# Altium schematic symbol library ExtendBoard_1.SCHLIB: 6 symbols
Pins are listed as number, name and electrical type; pins without a type are passive.

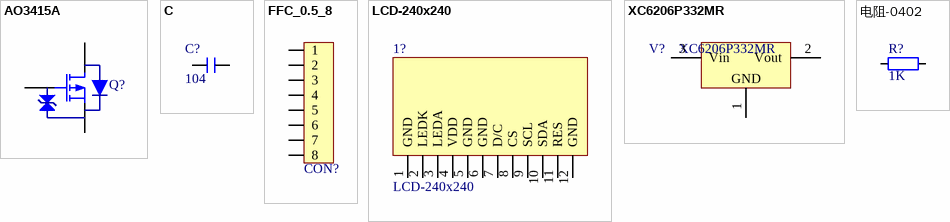
[diagram p0: symbols AO3415A to 电阻-0402]

## AO3415A
designator Q?  (value not drawn)
MOSFET; Published: 8-Jun-2000; LatestRevisionDate: 17-Jul-2002; LatestRevisionNote: Re-released for DXP Platform.; PackageVersion: 1995/1996; PackageReference: E3; Publisher: Altium Limited; PackageDescription: TO, Flat Index; 3 In-Line, Axial Leads; Body Dia. 4.6mm; Lead Dia. 0.5 mm (max)
footprint SOT23-3 (SOT23, 3-Leads, Body 3.1x3.0mm (max), Pitch 0.95mm, IPC Medium Density)
pins: 1 G, 2 S, 3 D

## C
designator C?, comment 104
无极性贴片电容; 材质: X7R; BOM名称: 无极性贴片电容
footprint C 0402_L (无极性贴片电容)
footprint C 0402_M (无极性贴片电容)
pins: 1, 2

## FFC_0.5_8
designator CON?  (value not drawn)
FFC; System: Connector
footprint FFC_0.5_8
pins: 1, 2, 3, 4, 5, 6, 7, 8

## LCD-240x240
designator 1?
显示屏
footprint LCD-240x240
footprint LCD-240x240-NoHole
pins: 1 GND, 2 LEDK, 3 LEDA, 4 VDD, 5 GND, 6 GND, 7 D/C, 8 CS, 9 SCL, 10 SDA, 11 RES, 12 GND

## XC6206P332MR
designator V?
低压差线性稳压芯片; BOM名称: 低压差线性稳压芯片
footprint SOT23-3N (3x1.3x1mm(长宽高))
footprint SOT23-3M (3x1.3x1mm(长宽高))
footprint SOT23-3L (3x1.3x1mm(长宽高))
pins: 1 GND, 2 Vout, 3 Vin

## 电阻-0402
designator R?, comment 1K
Resistor; Value: 22R
footprint RES_0402
pins: 1, 2